# Altium footprint library Module Library_DWM1001.PcbLib: 2 footprints
Each footprint in its own frame and in the unit in brackets; x right, y up, seen from the top. Pads: shape width x height; smd on the part's side, far side on the other; paste and mask are expansions set on the pad; w line width, h text height; cw(c..) or ccw(c..) is an arc to the next point about the centre after c.
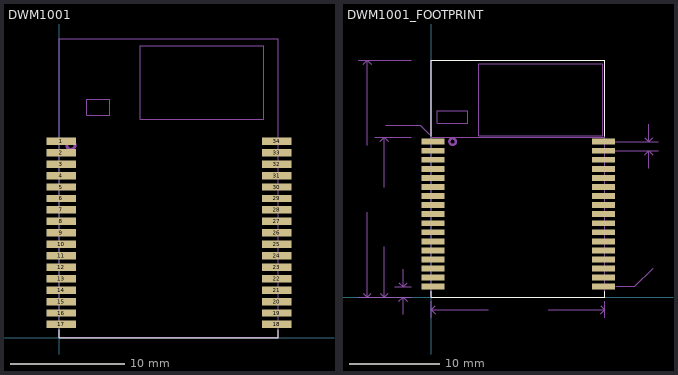
[diagram p0: the footprints below, top view; thin cyan lines are the x and y axes]

## DWM1001 [mm] "DWM1001 MODULE"
height 4
pads (34):
  rect 2.54x0.65 smd: 1(0.16,17.15) 2(0.16,16.15) 3(0.16,15.15) 4(0.16,14.15) 5(0.16,13.15) 6(0.16,12.15) 7(0.16,11.15) 8(0.16,10.15) 9(0.16,9.15) 10(0.16,8.15) 11(0.16,7.15) 12(0.16,6.15) 13(0.16,5.15) 14(0.16,4.15) 15(0.16,3.15) 16(0.16,2.15) 17(0.16,1.15) 18(18.97,1.15) 19(18.97,2.15) 20(18.97,3.15) 21(18.97,4.15) 22(18.97,5.15) 23(18.97,6.15) 24(18.97,7.15) 25(18.97,8.15) 26(18.97,9.15) 27(18.97,10.15) 28(18.97,11.15) 29(18.97,12.15) 30(18.97,13.15) 31(18.97,14.15) 32(18.97,15.15) 33(18.97,16.15) 34(18.97,17.15)
Top Overlay:
  lines w0.1: 0,0.7 0,0 19.1,0 19.1,0.7
Mechanical 1:
  lines w0.1: 0,0 0,26.075 19.1,26.075 19.1,0.025 0,0.025 0,0.9
Mechanical 16:
  circle w0.254: c1,16.8 r0.361
  lines w0.1: 0,0.025 0,26.075 19.1,26.075 19.1,0.025 0,0.025 ; 2.4,19.4 2.4,20.8 4.4,20.8 4.4,19.4 2.4,19.4 ; 7.075,19.05 7.075,25.475 17.85,25.475 17.85,19.05 7.075,19.05
Mechanical 29:
  text ".Designator" at 5.6,11.6 h0.8
3D body: height 4.6, standoff 0.03, extent 0,0 19.125,26.125

## DWM1001_FOOTPRINT [mm] "DWM1001_MODULE_FOOTPRINT"
height 4
pads (34):
  rect 2.54x0.65 smd: 1(0.16,17.15) 2(0.16,16.15) 3(0.16,15.15) 4(0.16,14.15) 5(0.16,13.15) 6(0.16,12.15) 7(0.16,11.15) 8(0.16,10.15) 9(0.16,9.15) 10(0.16,8.15) 11(0.16,7.15) 12(0.16,6.15) 13(0.16,5.15) 14(0.16,4.15) 15(0.16,3.15) 16(0.16,2.15) 17(0.16,1.15) 18(18.97,1.15) 19(18.97,2.15) 20(18.97,3.15) 21(18.97,4.15) 22(18.97,5.15) 23(18.97,6.15) 24(18.97,7.15) 25(18.97,8.15) 26(18.97,9.15) 27(18.97,10.15) 28(18.97,11.15) 29(18.97,12.15) 30(18.97,13.15) 31(18.97,14.15) 32(18.97,15.15) 33(18.97,16.15) 34(18.97,17.15)
Top Overlay:
  lines w0.127: 0,0.635 0,0 19.125,0 19.125,0.635 ; 0,17.729 0,26.125 19.125,26.125 19.125,17.729
Mechanical 1:
  lines w0.013: 0,0 0,26.125 19.125,26.125 19.125,0 0,0
Mechanical 2:
  lines w0.127: -8.105,0 -6.912,0 -2.222,0 ; -8.105,26.125 -2.221,26.125 ; -7.53,0.443 -7.087,0 ; -7.53,25.682 -7.087,26.125 ; -7.087,9.349 -7.087,0 ; -7.087,16.776 -7.087,26.125 ; -6.644,0.443 -7.087,0 ; -6.644,25.682 -7.087,26.125 ; -6.251,17.65 -4.213,17.65 -2.221,17.65 ; -5.675,0.443 -5.232,0 ; -5.675,17.207 -5.232,17.65 ; -5.232,5.541 -5.232,0 ; -5.232,12.108 -5.232,17.65 ; -5.045,18.952 -1.223,18.952 -0.237,17.966 ; -4.789,0.443 -5.232,0 ; -4.789,17.207 -5.232,17.65 ; -4.056,1.15 -2.222,1.15 ; -3.582,-0.443 -3.139,0 ; -3.582,1.593 -3.139,1.15 ; -3.139,-1.913 -3.139,0 ; -3.139,3.063 -3.139,1.15 ; -2.696,-0.443 -3.139,0 ; -2.696,1.593 -3.139,1.15 ; 0,-2.277 0,-0.483 ; 0.443,-1.823 0,-1.38 ; 0.443,-0.937 0,-1.38 ; 6.255,-1.38 0,-1.38 ; 12.87,-1.38 19.125,-1.38 ; 18.682,-1.823 19.125,-1.38 ; 18.682,-0.937 19.125,-1.38 ; 18.97,16.15 25.001,16.15 ; 18.97,17.15 25.001,17.15 ; 19.125,-2.277 19.125,-0.483 ; 20.32,1.181 22.441,1.181 24.46,3.2 ; 23.539,15.707 23.982,16.15 ; 23.539,17.593 23.982,17.15 ; 23.982,14.237 23.982,16.15 ; 23.982,19.063 23.982,17.15 ; 24.425,15.707 23.982,16.15 ; 24.425,17.593 23.982,17.15
  text "PIN 1" at -4.936,19.242 h0.76
  text "34x" at 21.793,5.109 h0.76
  text "2.54mm x 0.65mm" at 21.793,3.658 h0.76
  text "1.00mm" at 25.959,16.408 h0.76
  text "19.125mm" at 6.909,-1.803 h0.76
  text "17.65mm" at -4.82,6.272 h0.76
  text "26.125mm" at -6.807,10.109 h0.76
  text "(GROUND)" at 21.126,9.369 h1.02
  text "(NON-GROUND)" at 21.126,21.221 h1.02
  text "1.15mm" at -2.783,3.716 h0.76
Mechanical 16:
  circle w0.254: c2.337,17.15 r0.361
  lines w0.01: 11.42,17.65 11.68,17.65
  lines w0.013: 0,0 19.125,0
  lines w0.1: 0.625,19.182 0.625,20.582 4.025,20.582 4.025,19.182 0.625,19.182 ; 5.241,17.777 5.241,25.751 18.902,25.751 18.902,17.777 5.241,17.777
  lines w0.127: 0,17.65 0,0 19.125,0 19.125,17.65 ; 0,17.65 19.125,17.65 ; 0,17.65 0,26.125 19.125,26.125 19.125,17.65
3D body: height 3.2, standoff 0, extent 0.025,0 19.15,26.125